# Altium footprint library SVP_Common.PcbLib: 34 footprints (part 2 of 3)
Each footprint in its own frame and in the unit in brackets; x right, y up, seen from the top. Pads: shape width x height; smd on the part's side, far side on the other; paste and mask are expansions set on the pad; w line width, h text height; cw(c..) or ccw(c..) is an arc to the next point about the centre after c.
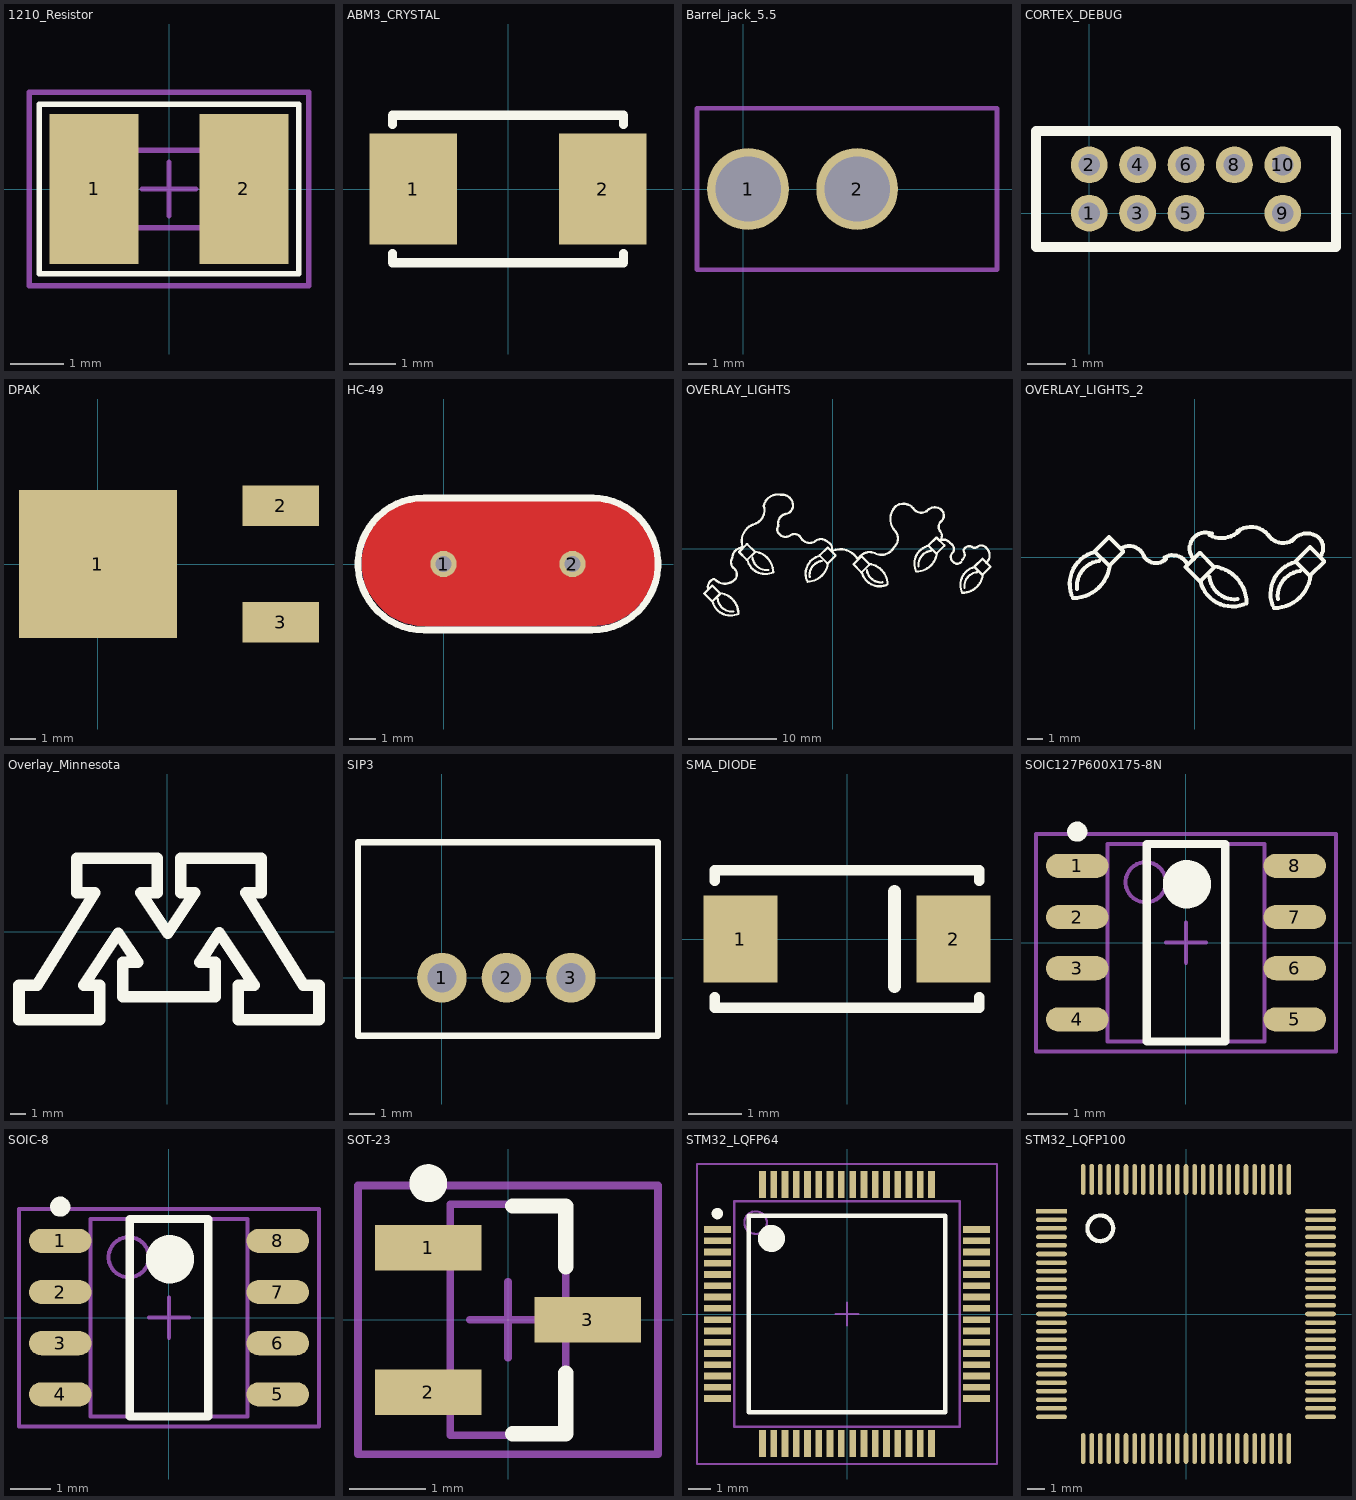
[diagram p1: the footprints below, top view; thin cyan lines are the x and y axes]

## 1210_Resistor [mil] "1210 Resistor"
height 43.31
pads (2):
  rect 65x110 smd: 1(-55,0) 2(55,0)
Top Overlay:
  lines w4: -95,-62 -95,62 95,62 95,-62 -95,-62
Mechanical 13:
  lines w3.94: -43.31,-28.54 -43.31,28.54 43.31,28.54 43.31,-28.54 -43.31,-28.54
Mechanical 15:
  lines w3.94: -19.68,0 19.69,0 ; 0,-19.68 0,19.69 ; -102.36,-70.87 -102.36,70.87 102.36,70.87 102.36,-70.87 -102.36,-70.87

## ABM3_CRYSTAL [mm] "ABM3  Ceramic Crystal"
height 1.3
pads (2):
  rect 1.9x2.4 smd: 1(-2.05,0) 2(2.05,0)
Top Overlay:
  lines w0.2: -2.5,-1.4 -2.5,-1.6 2.5,-1.6 2.5,-1.4 ; -2.5,1.4 -2.5,1.6 2.5,1.6 2.5,1.4
3D body "ABM3.STEP": height 1.32, standoff 0.01, extent -2.5,-1.6 2.5,1.6

## Barrel_jack_5.5 [mm]
pads (2):
  round 4.5 hole 3.6: 1(0.27,0) 2(6.274,0)
Mechanical 1:
  lines w0.254: -2.54,-4.445 -2.54,4.445 13.97,4.445 13.97,-4.445 -2.54,-4.445
3D body "pj-037a.stp": height 11, standoff -3.5, extent -0.635,-4.5 13.865,4.5

## CORTEX_DEBUG [mil]
pads (9):
  round 38 hole 22: 1(0,0) 2(0,50) 3(50,0) 4(50,50) 5(100,0) 6(100,50) 8(150,50) 9(200,0) 10(200,50)
Top Overlay:
  lines w10: -55,-35 -55,85 255,85 255,-35 -55,-35
3D body "FTSH-105-01-X-D-K.step": height 230.5, standoff -84.5, extent -27,-61 223,114

## DPAK [mm]
pads (3):
  rect 6.2x5.8 smd: 1(0,0)
  rect 3x1.6 smd: 2(7.18,2.285) 3(7.18,-2.285)
3D body "dpak.stp": height 2.3, standoff 0, extent -2,-3.25 7.5,3.25

## HC-49 [mm]
pads (2):
  round 1 hole 0.6: 1(0,0) 2(4.88,0)
Top Layer:
  pour cut-out: -2.591,1.499 -2.388,1.727 -2.235,1.854 -1.981,2.057 -1.727,2.184 -1.448,2.311 -1.067,2.388 -0.787,2.413 5.766,2.413 6.172,2.337 6.579,2.21 6.909,2.032 7.239,1.778 7.595,1.372 7.849,0.914 7.976,0.533 8.026,0.127 8.026,-0.178 7.95,-0.559 7.772,-0.991 7.569,-1.346 7.188,-1.778 6.858,-2.007 6.375,-2.235 6.02,-2.311 5.588,-2.362 -0.686,-2.362 -1.016,-2.337 -1.27,-2.286 -1.502,-2.216 -1.753,-2.108 -2.007,-1.981 -2.21,-1.829 -2.438,-1.6 -2.642,-1.346 -2.87,-1.016 -2.997,-0.66 -3.073,-0.279 -3.099,0.025 -3.073,0.33 -3.023,0.584 -2.946,0.889 -2.819,1.118 -2.718,1.295
Bottom Layer:
  pour cut-out: 7.518,1.499 7.315,1.727 7.163,1.854 6.909,2.057 6.655,2.184 6.375,2.311 5.994,2.388 5.715,2.413 -0.838,2.413 -1.245,2.337 -1.651,2.21 -1.981,2.032 -2.311,1.778 -2.667,1.372 -2.921,0.914 -3.048,0.533 -3.099,0.127 -3.099,-0.178 -3.023,-0.559 -2.845,-0.991 -2.642,-1.346 -2.261,-1.778 -1.93,-2.007 -1.448,-2.235 -1.092,-2.311 -0.66,-2.362 5.613,-2.362 5.944,-2.337 6.198,-2.286 6.43,-2.216 6.68,-2.108 6.934,-1.981 7.137,-1.829 7.366,-1.6 7.569,-1.346 7.798,-1.016 7.925,-0.66 8.001,-0.279 8.026,0.025 8.001,0.33 7.95,0.584 7.874,0.889 7.747,1.118 7.645,1.295
Top Overlay:
  lines w0.254: -0.737,2.5 5.664,2.5 ; -0.735,-2.5 cw(c-0.735,0) -0.735,2.5 ; -0.711,-2.5 5.613,-2.5 ; 5.615,-2.5 ccw(c5.615,0) 5.615,2.5
3D body "hc49.stp": height 3.3, standoff -0.76, extent -3.251,-1.778 8.099,1.872

## OVERLAY_LIGHTS [mm] "String of Christmas Lights"
Top Overlay:
  lines w0.254: -14.106,-4.608 cw(c-13.154,-4.354) -13.408,-3.402 ccw(c-12.201,-2.322) -11.122,-3.529 ccw(c-11.757,-2.894) -11.122,-2.259 cw(c-10.637,-1.518) -11.378,-1.033 cw(c-10.169,-1.052) -10.106,0.154 ; -13.027,-5.688 ccw(c-11.439,-5.497) -11.249,-7.085 ; -10.876,-7.42 cw(c-11.589,-5.476) -13.606,-5.942 ; -10.685,-7.339 ccw(c-13.027,-7.339) -12.768,-5.012 ; -10.233,0.281 cw(c-8.264,0.853) -8.836,2.821 ccw(c-9.344,4.345) -7.82,4.853 cw(c-6.232,4.536) -5.915,6.123 cw(c-5.724,4.917) -4.518,5.107 cw(c-5.47,4.917) -5.28,3.964 ccw(c-5.089,2.885) -6.169,2.694 ; -9.09,-0.989 ccw(c-7.502,-0.798) -7.312,-2.386 ; -6.939,-2.721 cw(c-7.652,-0.777) -9.669,-1.243 ; -6.748,-2.64 ccw(c-9.09,-2.64) -8.831,-0.313 ; -6.169,2.567 ccw(c-5.661,2.186) -6.042,1.678 ccw(c-5.343,2.25) -4.772,1.551 cw(c-4.327,0.853) -3.629,1.297 ccw(c-2.613,1.805) -2.105,0.789 cw(c-1.343,0.027) -0.581,0.789 cw(c-0.898,0.027) -0.136,-0.29 cw(c0.88,-2.259) 2.848,-1.243 cw(c4.182,-1.814) 4.753,-0.481 ccw(c5.515,0.916) 6.912,0.154 ccw(c6.023,1.17) 7.039,2.059 cw(c8.5,3.393) 7.166,4.853 cw(c7.992,3.647) 9.198,4.472 ccw(c10.024,5.171) 10.722,4.345 ; -2.948,-3.521 cw(c-1.004,-2.808) -1.47,-0.791 ; -2.867,-3.712 ccw(c-2.867,-1.37) -0.54,-1.629 ; -2.613,-3.148 cw(c-1.025,-2.957) -1.216,-1.37 ; 3.864,-2.386 ccw(c5.452,-2.195) 5.642,-3.783 ; 6.015,-4.118 cw(c5.302,-2.174) 3.285,-2.64 ; 6.206,-4.037 ccw(c3.864,-4.037) 4.123,-1.71 ; 9.371,-2.378 cw(c11.315,-1.665) 10.849,0.352 ; 9.452,-2.569 ccw(c9.452,-0.227) 11.779,-0.486 ; 9.706,-2.005 cw(c11.294,-1.814) 11.103,-0.227 ; 10.595,4.218 cw(c11.548,3.52) 12.246,4.472 cw(c11.675,3.774) 12.373,3.202 ccw(c12.818,2.504) 12.119,2.059 cw(c11.548,1.488) 12.119,0.916 cw(c12.564,0.218) 13.262,0.662 cw(c12.945,-0.036) 13.643,-0.354 ccw(c14.088,-0.925) 13.516,-1.37 ; 13.643,-1.497 ccw(c14.088,-1.052) 14.532,-1.497 ; 14.578,-4.791 cw(c16.522,-4.078) 16.056,-2.061 ; 14.659,-4.982 ccw(c14.659,-2.64) 16.986,-2.899 ; 14.659,-1.243 ccw(c14.215,-0.671) 14.786,-0.227 cw(c15.485,-0.417) 15.675,0.281 ccw(c16.056,0.662) 16.437,0.281 cw(c16.818,-0.354) 17.453,0.027 cw(c16.628,-0.735) 17.39,-1.56 ; 14.913,-4.418 cw(c16.501,-4.227) 16.31,-2.64 ; -13.606,-5.942 -13.662,-5.942 -14.551,-5.053 -13.662,-4.164 -13.616,-4.164 -12.768,-5.012 ; -13.606,-5.942 -12.768,-5.104 -12.768,-5.012 ; -9.669,-1.243 -9.725,-1.243 -10.614,-0.354 -9.725,0.535 -9.679,0.535 -8.831,-0.313 ; -9.669,-1.243 -8.831,-0.405 -8.831,-0.313 ; -1.47,-0.791 -1.47,-0.735 -0.581,0.154 0.308,-0.735 0.308,-0.781 -0.54,-1.629 ; -1.47,-0.791 -0.632,-1.629 -0.54,-1.629 ; 3.285,-2.64 3.229,-2.64 2.34,-1.751 3.229,-0.862 3.275,-0.862 4.123,-1.71 ; 3.285,-2.64 4.123,-1.802 4.123,-1.71 ; 10.849,0.352 10.849,0.408 11.738,1.297 12.627,0.408 12.627,0.362 11.779,-0.486 ; 10.849,0.352 11.687,-0.486 11.779,-0.486 ; 16.056,-2.061 16.056,-2.005 16.945,-1.116 17.834,-2.005 17.834,-2.051 16.986,-2.899 ; 16.056,-2.061 16.894,-2.899 16.986,-2.899

## OVERLAY_LIGHTS_2 [mm] "Smaller String of Christmas Lights"
Top Overlay:
  lines w0.254: -7.774,-2.378 cw(c-5.83,-1.665) -6.296,0.352 ; -7.693,-2.569 ccw(c-7.693,-0.227) -5.366,-0.486 ; -7.439,-2.005 cw(c-5.851,-1.814) -6.042,-0.227 ; -4.694,0.568 cw(c-4.149,-0.289) -3.175,0 ; -3.072,-0.09 ccw(c-2.444,0.539) -1.815,-0.09 ; -1.905,0 cw(c-1.382,-0.871) -0.511,-0.348 ; -0.055,-0.11 cw(c0.699,0.572) 1.099,1.505 ; 0.943,-1.243 ccw(c2.531,-1.052) 2.721,-2.64 ; 0.943,1.424 ccw(c1.705,2.821) 2.8,1.666 ; 1.202,-0.659 0.364,-1.497 ; 2.706,1.668 cw(c3.547,0.472) 4.753,1.297 ccw(c5.579,1.996) 6.277,1.17 ; 3.094,-2.975 cw(c2.381,-1.031) 0.364,-1.497 ; 3.285,-2.894 ccw(c0.943,-2.894) 1.202,-0.567 0.354,0.281 0.308,0.281 -0.581,-0.608 0.308,-1.497 0.364,-1.497 ; 4.926,-3.013 cw(c6.87,-2.3) 6.404,-0.283 ; 5.007,-3.204 ccw(c5.007,-0.862) 7.334,-1.121 ; 5.261,-2.64 cw(c6.849,-2.449) 6.658,-0.862 ; 6.15,1.043 cw(c7.103,0.345) 7.801,1.297 cw(c7.23,0.599) 7.928,0.027 ; -6.296,0.352 -5.458,-0.486 -5.366,-0.486 ; -6.296,0.352 -6.296,0.408 -5.407,1.297 -4.518,0.408 -4.518,0.362 -5.366,-0.486 ; 6.404,-0.283 6.404,-0.227 7.293,0.662 8.182,-0.227 8.182,-0.273 7.334,-1.121 ; 6.404,-0.283 7.242,-1.121 7.334,-1.121

## Overlay_Minnesota [mm]
Top Overlay:
  lines w0.762: -9.779,-5.817 -9.779,-3.531 -8.588,-3.531 -4.778,2.565 -5.969,2.565 -5.969,4.851 -0.635,4.851 -0.635,2.565 -1.736,2.565 0.042,-0.102 1.82,2.565 0.889,2.565 0.889,4.851 6.223,4.851 6.223,2.565 5.191,2.565 9.001,-3.531 10.033,-3.531 10.033,-5.817 4.699,-5.817 4.699,-3.531 5.757,-3.531 3.45,-0.07 2.159,-2.007 3.175,-2.007 3.175,-4.293 -2.921,-4.293 -2.921,-2.007 -1.947,-2.007 -3.217,-0.102 -5.503,-3.531 -4.445,-3.531 -4.445,-5.817 -9.779,-5.817

## SIP3 [mm]
pads (3):
  oval 1.95x1.96 hole 1.15: 1(0,0) 2(2.54,0) 3(5.08,0)
Top Overlay:
  lines w0.254: -3.302,-2.286 -3.302,5.334 8.509,5.334 8.509,-2.286 -3.302,-2.286
3D body: height 10.2, standoff 0, extent -3.463,-2.25 8.662,5.3

## SMA_DIODE [mm] "DO-214AC SMA Dode Footprint"
pads (2):
  rect 1.4x1.64 smd: 1(-2.015,0) 2(2.015,0)
Top Overlay:
  lines w0.2: -2.5,-1.1 -2.5,-1.3 2.5,-1.3 2.5,-1.1 ; -2.5,1.1 -2.5,1.3 2.5,1.3 2.5,1.1
  lines w0.25: 0.9,-0.9 0.9,0.9
3D body "User Library-SMAJ.step": height 2.01, standoff 0.01, extent -2.465,-1.24 2.465,1.3

## SOIC127P600X175-8N [mm] "SOIC, 8-Leads, Body 4.9x3.9mm (max), Pitch 1.27mm, IPC Medium Density"
height 1.75
pads (8):
  oval 1.55x0.6 smd: 1(-2.7,1.905) 2(-2.7,0.635) 3(-2.7,-0.635) 4(-2.7,-1.905) 5(2.7,-1.905) 6(2.7,-0.635) 7(2.7,0.635) 8(2.7,1.905)
Top Overlay:
  circle w0.6: c0.025,1.45 r0.3
  circle w0.25: c-2.7,2.755 r0.125
  lines w0.2: -0.975,-2.45 0.975,-2.45 0.975,2.45 -0.975,2.45 -0.975,-2.45
Mechanical 13:
  circle w0.1: c-1,1.5 r0.5
  lines w0.1: -1.95,-2.45 1.95,-2.45 1.95,2.45 -1.95,2.45 -1.95,-2.45
Mechanical 15:
  lines w0.1: -0.5,0 0.5,0 ; 0,-0.5 0,0.5 ; -3.725,-2.7 3.725,-2.7 3.725,2.7 -3.725,2.7 -3.725,-2.7
3D body "so8.stp": height 1.55, standoff 0, extent -3.023,-2.464 2.977,2.479

## SOIC-8 [mm] "SOIC, 8-Leads, Body 4.9x3.9mm (max), Pitch 1.27mm, IPC Medium Density"
height 1.75
pads (8):
  oval 1.55x0.6 smd: 1(-2.7,1.905) 2(-2.7,0.635) 3(-2.7,-0.635) 4(-2.7,-1.905) 5(2.7,-1.905) 6(2.7,-0.635) 7(2.7,0.635) 8(2.7,1.905)
Top Overlay:
  circle w0.6: c0.025,1.45 r0.3
  circle w0.25: c-2.7,2.755 r0.125
  lines w0.2: -0.975,-2.45 0.975,-2.45 0.975,2.45 -0.975,2.45 -0.975,-2.45
Mechanical 13:
  circle w0.1: c-1,1.5 r0.5
  lines w0.1: -1.95,-2.45 1.95,-2.45 1.95,2.45 -1.95,2.45 -1.95,-2.45
Mechanical 15:
  lines w0.1: -0.5,0 0.5,0 ; 0,-0.5 0,0.5 ; -3.725,-2.7 3.725,-2.7 3.725,2.7 -3.725,2.7 -3.725,-2.7
3D body "so8.stp": height 1.55, standoff 0, extent -3.023,-2.464 2.977,2.479

## SOT-23 [mm] "SOT23, 3-Leads, Body 3.0x2.7mm (max), Pitch 0.95mm, IPC Medium Density"
height 1.12
pads (3):
  rect 1.4x0.6 smd: 1(-1.05,0.95) 2(-1.05,-0.95) 3(1.05,0)
Top Overlay:
  circle w0.25: c-1.05,1.8 r0.125
  lines w0.2: 0.06,-1.5 0.76,-1.5 0.76,-0.7 ; 0.06,1.5 0.76,1.5 0.76,0.7
Mechanical 13:
  lines w0.1: -0.76,-1.52 0.76,-1.52 0.76,1.52 -0.76,1.52 -0.76,-1.52
Mechanical 15:
  lines w0.1: -0.5,0 0.5,0 ; 0,-0.5 0,0.5 ; -1.975,-1.77 1.975,-1.77 1.975,1.77 -1.975,1.77 -1.975,-1.77
3D body "sot-23.stp": height 1.1, standoff 0, extent -1.21,-1.1 0.991,1.1

## STM32_LQFP64 [mm] "TSQFP, 64-Leads, Body 12.0x12.0mm (max), Pitch 0.50mm, IPC Medium Density"
height 1.6
pads (64):
  rect 1.2x0.3 smd: 1(-5.75,3.75) 2(-5.75,3.25) 3(-5.75,2.75) 4(-5.75,2.25) 5(-5.75,1.75) 6(-5.75,1.25) 7(-5.75,0.75) 8(-5.75,0.25) 9(-5.75,-0.25) 10(-5.75,-0.75) 11(-5.75,-1.25) 12(-5.75,-1.75) 13(-5.75,-2.25) 14(-5.75,-2.75) 15(-5.75,-3.25) 16(-5.75,-3.75) 33(5.75,-3.75) 34(5.75,-3.25) 35(5.75,-2.75) 36(5.75,-2.25) 37(5.75,-1.75) 38(5.75,-1.25) 39(5.75,-0.75) 40(5.75,-0.25) 41(5.75,0.25) 42(5.75,0.75) 43(5.75,1.25) 44(5.75,1.75) 45(5.75,2.25) 46(5.75,2.75) 47(5.75,3.25) 48(5.75,3.75)
  rect 0.3x1.2 smd: 17(-3.75,-5.75) 18(-3.25,-5.75) 19(-2.75,-5.75) 20(-2.25,-5.75) 21(-1.75,-5.75) 22(-1.25,-5.75) 23(-0.75,-5.75) 24(-0.25,-5.75) 25(0.25,-5.75) 26(0.75,-5.75) 27(1.25,-5.75) 28(1.75,-5.75) 29(2.25,-5.75) 30(2.75,-5.75) 31(3.25,-5.75) 32(3.75,-5.75) 49(3.75,5.75) 50(3.25,5.75) 51(2.75,5.75) 52(2.25,5.75) 53(1.75,5.75) 54(1.25,5.75) 55(0.75,5.75) 56(0.25,5.75) 57(-0.25,5.75) 58(-0.75,5.75) 59(-1.25,5.75) 60(-1.75,5.75) 61(-2.25,5.75) 62(-2.75,5.75) 63(-3.25,5.75) 64(-3.75,5.75)
Top Overlay:
  circle w0.25: c-5.75,4.45 r0.125
  circle w0.6: c-3.35,3.35 r0.3
  lines w0.2: -4.35,-4.35 -4.35,4.35 4.35,4.35 4.35,-4.35 -4.35,-4.35
Mechanical 13:
  circle w0.1: c-4.05,4.05 r0.5
  lines w0.1: -5,-5 -5,5 5,5 5,-5 -5,-5
Mechanical 15:
  lines w0.1: -0.5,0 0.5,0 ; 0,-0.5 0,0.5 ; -6.65,-6.65 -6.65,6.65 6.65,6.65 6.65,-6.65 -6.65,-6.65
3D body "User Library-LQFP64_Grid_0_5.STEP": height 1.6, standoff 0, extent -5.994,-6 6.006,6

## STM32_LQFP100 [mm]
pads (100):
  rect 1.8x0.27 smd: 1(-7.85,6)
  oval 1.8x0.27 smd: 2(-7.85,5.5) 3(-7.85,5) 4(-7.85,4.5) 5(-7.85,4) 6(-7.85,3.5) 7(-7.85,3) 8(-7.85,2.5) 9(-7.85,2) 10(-7.85,1.5) 11(-7.85,1) 12(-7.85,0.5) 13(-7.85,0) 14(-7.85,-0.5) 15(-7.85,-1) 16(-7.85,-1.5) 17(-7.85,-2) 18(-7.85,-2.5) 19(-7.85,-3) 20(-7.85,-3.5) 21(-7.85,-4) 22(-7.85,-4.5) 23(-7.85,-5) 24(-7.85,-5.5) 25(-7.85,-6) 51(7.85,-6) 52(7.85,-5.5) 53(7.85,-5) 54(7.85,-4.5) 55(7.85,-4) 56(7.85,-3.5) 57(7.85,-3) 58(7.85,-2.5) 59(7.85,-2) 60(7.85,-1.5) 61(7.85,-1) 62(7.85,-0.5) 63(7.85,0) 64(7.85,0.5) 65(7.85,1) 66(7.85,1.5) 67(7.85,2) 68(7.85,2.5) 69(7.85,3) 70(7.85,3.5) 71(7.85,4) 72(7.85,4.5) 73(7.85,5) 74(7.85,5.5) 75(7.85,6)
  oval 0.27x1.8 smd: 26(-6,-7.85) 27(-5.5,-7.85) 28(-5,-7.85) 29(-4.5,-7.85) 30(-4,-7.85) 31(-3.5,-7.85) 32(-3,-7.85) 33(-2.5,-7.85) 34(-2,-7.85) 35(-1.5,-7.85) 36(-1,-7.85) 37(-0.5,-7.85) 38(0,-7.85) 39(0.5,-7.85) 40(1,-7.85) 41(1.5,-7.85) 42(2,-7.85) 43(2.5,-7.85) 44(3,-7.85) 45(3.5,-7.85) 46(4,-7.85) 47(4.5,-7.85) 48(5,-7.85) 49(5.5,-7.85) 50(6,-7.85) 76(6,7.85) 77(5.5,7.85) 78(5,7.85) 79(4.5,7.85) 80(4,7.85) 81(3.5,7.85) 82(3,7.85) 83(2.5,7.85) 84(2,7.85) 85(1.5,7.85) 86(1,7.85) 87(0.5,7.85) 88(0,7.85) 89(-0.5,7.85) 90(-1,7.85) 91(-1.5,7.85) 92(-2,7.85) 93(-2.5,7.85) 94(-3,7.85) 95(-3.5,7.85) 96(-4,7.85) 97(-4.5,7.85) 98(-5,7.85) 99(-5.5,7.85) 100(-6,7.85)
Top Overlay:
  circle w0.254: c-5,5 r0.75
3D body "User Library-LQFP100.step": height 1.6, standoff 0, extent -8,-8 8,8